# Altium schematic symbol library MOUDLE-GPS-NEO-6M_24P-16X12.2MM_.SchLib: 1 symbol
Pins are listed as number, name and electrical type; pins without a type are passive.

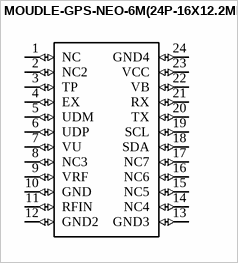
[diagram p0: symbol MOUDLE-GPS-NEO-6M(24P-16X12.2MM)]

## MOUDLE-GPS-NEO-6M(24P-16X12.2MM)
designator U?  (value not drawn)
Value: *
footprint GPS24P-SMD-1.1-16X12.2MM
pins: 1 NC (io), 2 NC2 (io), 3 TP (io), 4 EX (io), 5 UDM (io), 6 UDP (io), 7 VU (io), 8 NC3 (io), 9 VRF (io), 10 GND (io), 11 RFIN (io), 12 GND2 (io), 13 GND3 (io), 14 NC4 (io), 15 NC5 (io), 16 NC6 (io), 17 NC7 (io), 18 SDA (io), 19 SCL (io), 20 TX (io), 21 RX (io), 22 VB (io), 23 VCC (io), 24 GND4 (io)